# Altium schematic symbol library 2020-02-13_00-03-41.SchLib: 1 symbol
Pins are listed as number, name and electrical type; pins without a type are passive.

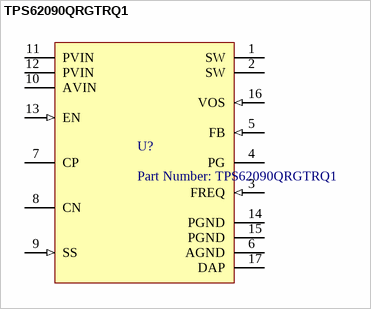
[diagram p0: symbol TPS62090QRGTRQ1]

## TPS62090QRGTRQ1
designator U?, comment Part Number: TPS62090QRGTRQ1
No Description Available; Vendor: Texas Instruments; Built_By: Texas_Instrument_Team; CompType: IC; Manufacturer_Part_Number: TPS62090QRGTRQ1; Copyright: Copyright (C) 2018 Accelerated Designs. All rights reserved; RefDes: RefDes; Type: DEV; Value: Value; PartNumber: TPS62090QRGTRQ1; PackageReference: RGT0016C; MountType: SMT; RoHS: Y; Manufacturer: Texas Instruments
footprint QFN50P300X300X100_HS-17N (QFN, 16-Leads, Body 3.00x3.00mm, Pitch 0.50mm, Thermal Pad 1.68x1.68mm, IPC Medium Density)
pins: 1 SW (power), 2 SW (power), 3 FREQ (in), 4 PG (oc), 5 FB (in), 6 AGND (power), 7 CP, 8 CN, 9 SS (in), 10 AVIN (power), 11 PVIN (power), 12 PVIN (power), 13 EN (in), 14 PGND (power), 15 PGND (power), 16 VOS (in), 17 DAP (power)